# Altium schematic symbol library bhumishboard.SCHLIB: 123 symbols
Pins are listed as number, name and electrical type; pins without a type are passive.

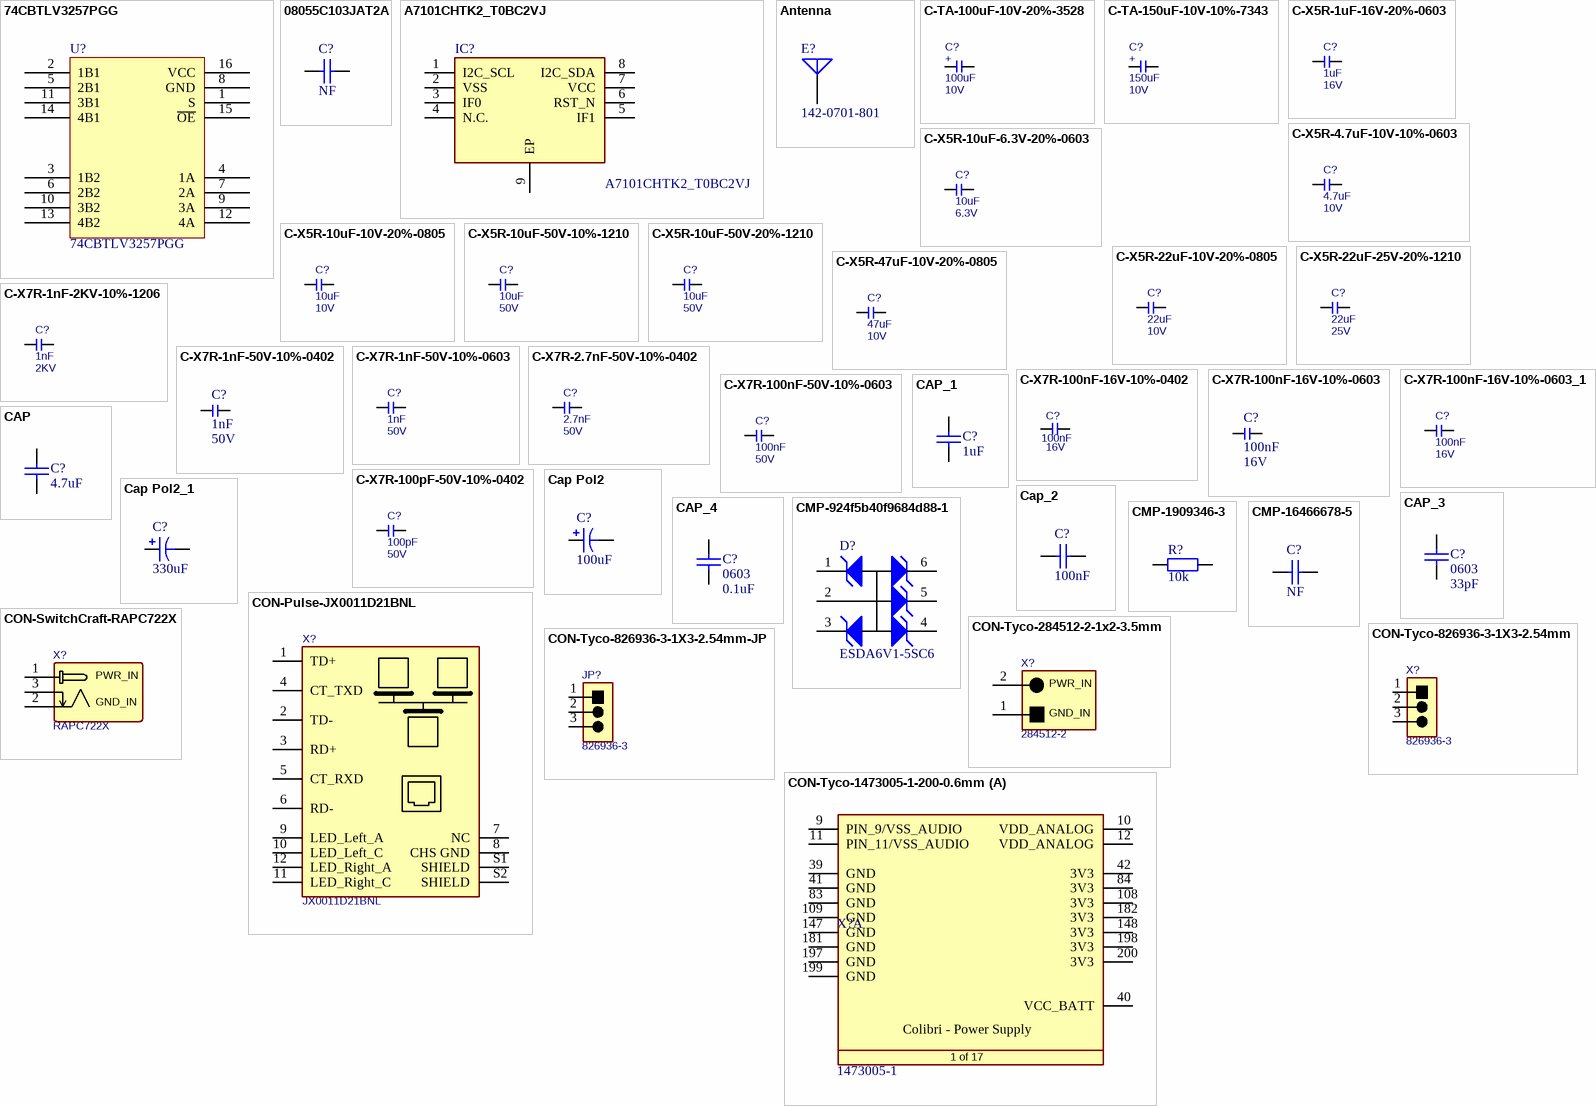
[diagram p0: symbols 74CBTLV3257PGG to CON-Tyco-1473005-1-200-0.6mm]

## 74CBTLV3257PGG
designator U?
footprint SOP65P640X120-16N
pins: 1 S, 2 1B1, 3 1B2, 4 1A, 5 2B1, 6 2B2, 7 2A, 8 GND, 9 3A, 10 3B2, 11 3B1, 12 4A, 13 4B2, 14 4B1, 15 ~{OE}, 16 VCC

## 08055C103JAT2A
designator C?, comment NF
CAP CER 10NF 50V 5% X7R 0805; Manufacturer Part Number: 08055C103JAT2A; Capacitance: 1e-08 F; Insulation Resistance: 1e+11 Ω; Voltage Rating (DC): 50.0 V; Dielectric Material: Ceramic Multilayer; Lead-Free Status: Lead Free; Case/Package (SI): 2012; Octopart Url: https://octopart.com/08055c103jat2a-avx+interconnect+%2F+elco-39513106; Capacitance Tolerance: ±5%; OctopartID: 02fac9aacb8edd3d; Number of Pins: 2; Size-Height: 0.00094 m; Size-Width: 0.0012446 m; RoHS: Compliant; REACH SVHC Compliance: No SVHC; Size-Length: 0.0020066 m; Size-Thickness: 0.0009398 m; Case/Package: 0805; Dielectric Characteristic: X7R; Mounting Style: Surface Mount
footprint CAPC2013X94X50ML20T25
footprint CAPC2013X94X50NL20T25
footprint CAPC1608X100N (Capacitor, non-Polarized, Chip; 1.60mm L X 0.80mm W X 1.00mm H, IPC Medium Density)
pins: 1, 2
1 alternate drawing of the same symbol

## A7101CHTK2_T0BC2VJ
designator IC?
Integrated Circuit; Manufacturer_Name: NXP; Manufacturer_Part_Number: A7101CHTK2/T0BC2VJ; Datasheet Link: https://componentsearchengine.com//A7101CHTK2_T0BC2VJ.pdf; Height: 1mm; Mouser2 Part Number: 771-A7101CHTKT0BC2VJ; Mouser2 Price/Stock: https://www.mouser.com/Search/Refine.aspx?Keyword=771-A7101CHTKT0BC2VJ
footprint SON80P400X400X100-9N-D
pins: 1 I2C_SCL, 2 VSS, 3 IF0, 4 N.C., 5 IF1, 6 RST_N, 7 VCC, 8 I2C_SDA, 9 EP

## Antenna
designator E?, comment 142-0701-801
Generic Antenna; Published: 24-Mar-1999; LatestRevisionDate: 17-Jul-2002; LatestRevisionNote: Re-released for DXP Platform.; PackageReference: PIN1; Publisher: Altium Limited
footprint PIN1 (Generic Antenna; 1 Lead)
pins: 1 A

## C-TA-100uF-10V-20%-3528
designator C?, comment Rating: 10V  (hidden comment: 100uF)
Capacitor TA 100uF 10V 20% 3528; Tolerance: 20%; Type: TA; Value: 100uF
footprint CAPMP3528X210N
pins: 1, 2
text: +

## C-TA-150uF-10V-10%-7343
designator C?, comment Rating: 10V  (hidden comment: 150uF)
Capacitor TA 150uF 10V 20% 7343; Tolerance: 10%; Type: TA; Value: 150uF
footprint CAPMP7343X310N
pins: 1, 2
text: +

## C-X5R-1uF-16V-20%-0603
designator C?, comment Rating: 16V  (hidden comment: 1uF)
Capacitor Ceramic X5R 1uF 16V 20% 0603; Tolerance: 20%; Type: X5R; Value: 1uF
footprint CAPC0603X33N
footprint T_CAPC0603X33N
pins: 1, 2

## C-X5R-4.7uF-10V-10%-0603
designator C?, comment Rating: 10V  (hidden comment: 4.7uF)
Capacitor Ceramic X5R 4.7uF 10V 10% 0603; Manufacturer Name: Generic; Tolerance: 10%; Type: X5R; Manufacturer Part No.: *; Value: 4.7uF
footprint T_CAPC0603X33N
pins: 1, 2

## C-X5R-10uF-6.3V-20%-0603
designator C?, comment Rating: 6.3V  (hidden comment: 10uF)
Capacitor Ceramic X5R 10uF 6.3V 20% 0603; Tolerance: 20%; Type: X5R; Value: 10uF
footprint CAPC0603X33N
footprint T_CAPC0603X33N
pins: 1, 2

## C-X5R-10uF-10V-20%-0805
designator C?, comment Rating: 10V  (hidden comment: 10uF)
Capacitor Ceramic X5R 10uF 10V 20% 0805; Tolerance: 20%; Type: X5R; Value: 10uF
footprint T_CAPC0805X125N
pins: 1, 2

## C-X5R-10uF-50V-10%-1210
designator C?, comment Rating: 50V  (hidden comment: 10uF)
Capacitor Ceramic X5R 10uF 50V 10% 1210; Tolerance: 10%; Type: X5R; Value: 10uF
footprint CAPC3225X160N
pins: 1, 2

## C-X5R-10uF-50V-20%-1210
designator C?, comment Rating: 50V  (hidden comment: 10uF)
Capacitor Ceramic X5R 10uF 50V 20% 1210; Tolerance: 20%; Type: X5R; Value: 10uF
footprint CAPC3225X160N
pins: 1, 2

## C-X5R-22uF-10V-20%-0805
designator C?, comment Rating: 10V  (hidden comment: 22uF)
Capacitor Ceramic X5R 22uF 10V 20% 0805; Tolerance: 20%; Type: X5R; Value: 22uF
footprint T_CAPC0805X125N
pins: 1, 2

## C-X5R-22uF-25V-20%-1210
designator C?, comment Rating: 25V  (hidden comment: 22uF)
Capacitor Ceramic X5R 22uF 25V 20% 1210; Tolerance: 20%; Type: X5R; Value: 22uF
footprint CAPC3225X160N
pins: 1, 2

## C-X5R-47uF-10V-20%-0805
designator C?, comment Rating: 10V  (hidden comment: 47uF)
Capacitor Ceramic X5R 47uF 10V 20% 0805; Tolerance: 20%; Type: X5R; Value: 47uF
footprint T_CAPC0805X125N
pins: 1, 2

## C-X7R-1nF-2KV-10%-1206
designator C?, comment Rating: 2KV  (hidden comment: 1nF)
Capacitor Ceramic X7R 1nF 2KV 10% 1206; Tolerance: 10%; Type: X7R; Value: 1nF
footprint T_CAPC1206X180N (Ceramic Capacitor 1206 (3216 metric), max height 1.8mm)
pins: 1, 2

## C-X7R-1nF-50V-10%-0402
designator C?, comment Rating: 50V  (hidden comment: 1nF)
Capacitor Ceramic X7R 1nF 50V 10% 0402; Tolerance: 10%; Type: X7R; Value: 1nF
footprint CAPC1005X60N
pins: 1, 2

## C-X7R-1nF-50V-10%-0603
designator C?, comment Rating: 50V  (hidden comment: 1nF)
Capacitor Ceramic X7R 1nF 50V 10% 0603; Tolerance: 10%; Type: X7R; Value: 1nF
footprint T_CAPC0603X33N
pins: 1, 2

## C-X7R-2.7nF-50V-10%-0402
designator C?, comment Rating: 50V  (hidden comment: 2.7nF)
Capacitor Ceramic X7R 2.7nF 50V 10% 0402; Tolerance: 10%; Type: X7R; Value: 2.7nF
footprint CAPC1005X60N
pins: 1, 2

## C-X7R-100nF-16V-10%-0402
designator C?, comment Rating: 16V  (hidden comment: 100nF)
Capacitor Ceramic X7R 100nF 16V 10% 0402; Tolerance: 10%; Type: X7R; Value: 100nF
footprint CAPC1005X60N
pins: 1, 2

## C-X7R-100nF-16V-10%-0603
designator C?, comment Rating: 16V  (hidden comment: 100nF)
Capacitor Ceramic X7R 100nF 16V 10% 0603; Tolerance: 10%; Type: X7R; Value: 100nF
footprint T_CAPC0603X33N
pins: 1, 2

## C-X7R-100nF-16V-10%-0603_1
designator C?, comment Rating: 16V  (hidden comment: 100nF)
Capacitor Ceramic X7R 100nF 16V 10% 0603; Tolerance: 10%; Type: X7R; Value: 100nF
footprint CAPC0603X33N
footprint T_CAPC0603X33N
pins: 1, 2

## C-X7R-100nF-50V-10%-0603
designator C?, comment Rating: 50V  (hidden comment: 100nF)
Capacitor Ceramic X7R 100nF 50V 10% 0603; Tolerance: 10%; Type: X7R; Value: 100nF
footprint T_CAPC0603X33N
pins: 1, 2

## C-X7R-100pF-50V-10%-0402
designator C?, comment Rating: 50V  (hidden comment: 100pF)
Capacitor Ceramic X7R 100pF 50V 10% 0402; Tolerance: 10%; Type: X7R; Value: 100pF
footprint CAPC1005X60N (Ceramic Capacitor 0402 (1005 metric), max height 0.5mm)
pins: 1, 2

## CAP
designator C?, comment 4.7uF
mpn: C0603C475K9PACTU; E14 pn: 9227784; Value: 4.7uF
footprint CAPC1608X100N (Capacitor, non-Polarized, Chip; 1.60mm L X 0.80mm W X 1.00mm H, IPC Medium Density)
pins: 1, 2

## Cap Pol2
designator C?, comment 100uF
Polarized Capacitor (Axial); Published: 8-Jun-2000; LatestRevisionDate: 17-Jul-2002; LatestRevisionNote: Re-released for DXP Platform.; PackageReference: POLAR0.8; Publisher: Altium Limited; PackageDescription: Polarized Capacitor; 2 Leads; Value: 100uF
footprint 2312 Tant
simulation model CAP (Capacitor)
signal-integrity model Cap Pol
pins: 1, 2
1 alternate drawing of the same symbol

## Cap Pol2_1
designator C?, comment 330uF
Polarized Capacitor (Axial); Published: 8-Jun-2000; LatestRevisionDate: 17-Jul-2002; LatestRevisionNote: Re-released for DXP Platform.; PackageReference: POLAR0.8; Publisher: Altium Limited; PackageDescription: Polarized Capacitor; 2 Leads; Value: 330uF
footprint 2312 Tant
simulation model CAP (Capacitor)
signal-integrity model Cap Pol
pins: 1, 2
1 alternate drawing of the same symbol

## CAP_1
designator C?, comment 1uF
mpn: C0603C105K8PACTU; E14 pn: 9227776; Value: 1uF
footprint CAPC1608X100N (Capacitor, non-Polarized, Chip; 1.60mm L X 0.80mm W X 1.00mm H, IPC Medium Density)
pins: 1, 2

## Cap_2
designator C?, comment 100nF
Capacitor; mpn: MC0603B104K250CT; E14 pn: 2310560; LatestRevisionNote: Re-released for DXP Platform.; PackageReference: RAD-0.3; Publisher: Altium Limited; PackageDescription: Radial Cap, Thru-Hole; 2 Leads; 0.3 in Pin Spacing; Value: 100nF
footprint CAPC1608X06L
simulation model CAP (Capacitor)
signal-integrity model Cap
pins: 1, 2

## CAP_3
designator C?, comment 0603  value 33pF
CAP CER 33PF 50V C0G/NP0 0603; Manufacturer PN: C0603C330J5GACTU; MANUFACTURER: Kemet
footprint CAPC1608X100N (Capacitor, non-Polarized, Chip; 1.60mm L X 0.80mm W X 1.00mm H, IPC Medium Density)
footprint CAPC1005X55N
pins: 1, 2

## CAP_4
designator C?, comment 0603  value 0.1uF
CAP CER 0.1UF 16V X7R 0603; Manufacturer PN: C0603C104M4RACTU; MANUFACTURER: Kemet
footprint CAPC1608X100N (Capacitor, non-Polarized, Chip; 1.60mm L X 0.80mm W X 1.00mm H, IPC Medium Density)
footprint CAPC1608X100N (Capacitor, non-Polarized, Chip; 1.60mm L X 0.80mm W X 1.00mm H, IPC Medium Density)
pins: 1, 2

## CMP-924f5b40f9684d88-1
designator D?, comment ESDA6V1-5SC6
ESDA Series 5 Channel 6.1 V 50 pF SMT Uni Directional Transil Array - SOT-23-6L; Operating Voltage: 6.10 V; Power Rating: 100 W; Breakdown Voltage: 7.20 V; Lead-Free Status: Lead Free; REACH SVHC Compliance: No SVHC; Number of Pins: 6; Case/Package: SOT-23; Size-Width: 1.75 mm; Mounting Style: Surface Mount; Manufacturer Part Number: ESDA6V1-5SC6; Size-Height: 1.45 mm; OctopartID: 924f5b40f9684d88; Size-Length: 3.05 mm; Packaging: Tape & Reel (TR), Cut Tape (CT); Octopart URL: http://octopart.com/esda6v1-5sc6-stmicroelectronics-347713; RoHS: Compliant; Voltage Rating (DC): 6.10 V; Lifecycle Status: Active
footprint SOT95P280X100-6N (SOT23, 0.95mm pitch; 6 pin, 1.625mm W X 2.90mm L X 1.00mm H body, IPC Medium Density)
pins: 1 K, 2 K, 3 K, 4 A, 5 A, 6 A

## CMP-1909346-3
designator R?, comment 10k
RES SMD 10K OHM 1% 1/8W 0805; Voltage Rating (DC): 150.0 V; Power Rating: 0.125 W; Lead-Free Status: Contains Lead; Resistance: 10000.0 ╬®; Resistance Tolerance: ┬▒1%; Temperature Coefficient: 100.0 ppm/┬░C; Case/Package (SI): 2012; RoHS: Non-Compliant; Case/Package: 0805; Size-Width: 0.00125 m; Power Dissipation: 0.125 W; REACH SVHC Compliance: No SVHC; Size-Length: 0.002 m; Size-Height: 0.00045 m; Mounting Style: Surface Mount; Number of Pins: 2; Octopart Url: http://octopart.com/crcw080510k0fkta-vishay-46587010; OctopartID: 1d05d6c9e4e1c2c2
footprint RESC1608X50N (Chip Resistor, EIA 0603, Metric 1608, Body 1.6x0.8mm, IPC Medium Density)
pins: 1, 2

## CMP-16466678-5
designator C?, comment NF
CAP CER 10NF 50V 5% X7R 0805; Manufacturer Part Number: 08055C103JAT2A; Capacitance: 1e-08 F; Insulation Resistance: 1e+11 Ω; Voltage Rating (DC): 50.0 V; Dielectric Material: Ceramic Multilayer; Lead-Free Status: Lead Free; Case/Package (SI): 2012; Octopart Url: https://octopart.com/08055c103jat2a-avx+interconnect+%2F+elco-39513106; Capacitance Tolerance: ±5%; OctopartID: 02fac9aacb8edd3d; Number of Pins: 2; Size-Height: 0.00094 m; Size-Width: 0.0012446 m; RoHS: Compliant; REACH SVHC Compliance: No SVHC; Size-Length: 0.0020066 m; Size-Thickness: 0.0009398 m; Case/Package: 0805; Dielectric Characteristic: X7R; Mounting Style: Surface Mount
footprint CAPC2013X94X50ML20T25
footprint CAPC2013X94X50NL20T25
footprint CAPC1608X100N (Capacitor, non-Polarized, Chip; 1.60mm L X 0.80mm W X 1.00mm H, IPC Medium Density)
pins: 1, 2
1 alternate drawing of the same symbol

## CON-Pulse-JX0011D21BNL
designator X?, comment JX0011D21BNL
RJ45 connector with magentics, 10/100 Base-TX, AutoMDIX, Through Hole; Manufacturer Name: Pulse; No. of ways: 12; Manufacturer Part No.: JX0011D21BNL
footprint T_Pulse_J00-0065NL (RJ45 Connector)
pins: 1 TD+, 2 TD-, 3 RD+, 4 CT_TXD, 5 CT_RXD, 6 RD-, 7 NC, 8 CHS GND, 9 LED_Left_A, 10 LED_Left_C, 11 LED_Right_C, 12 LED_Right_A, S1 SHIELD, S2 SHIELD

## CON-SwitchCraft-RAPC722X
designator X?, comment RAPC722X
Barrel Power Connector; Manufacturer Name: SwitchCraft; Manufacturer Part No.: RAPC722X
footprint CTBP9358/3 (Footprint not found)
pins: 1 GND_IN, 2 PWR_IN, 3 PWR_IN

## CON-Tyco-284512-2-1x2-3.5mm
designator X?, comment 284512-2
Terminal Block Power Connector; Manufacturer Name: Tyco; No. of ways: 1x2; Pitch: 3.5mm; Manufacturer Part No.: 284512-2
footprint T_TYCO_284512-2 (Power Connector 3.5mm)
pins: 1 GND_IN, 2 PWR_IN

## CON-Tyco-826936-3-1X3-2.54mm
designator X?, comment 826936-3
Header, 3-Pin; Manufacturer Name: Tyco; No. of ways: 1X3; Pitch: 2.54mm; Manufacturer Part No.: 826936-3
footprint T_TYCO_826936-3 (Connector; Header; 3 Position)
pins: 1, 2, 3

## CON-Tyco-826936-3-1X3-2.54mm-JP
designator JP?, comment 826936-3
Jumper, 3-Pin; Manufacturer Name: Tyco; No. of ways: 1X3; Pitch: 2.54mm; Manufacturer Part No.: 826936-3
footprint T_TYCO_826936-3 (Connector; Header; 3 Position)
pins: 1, 2, 3

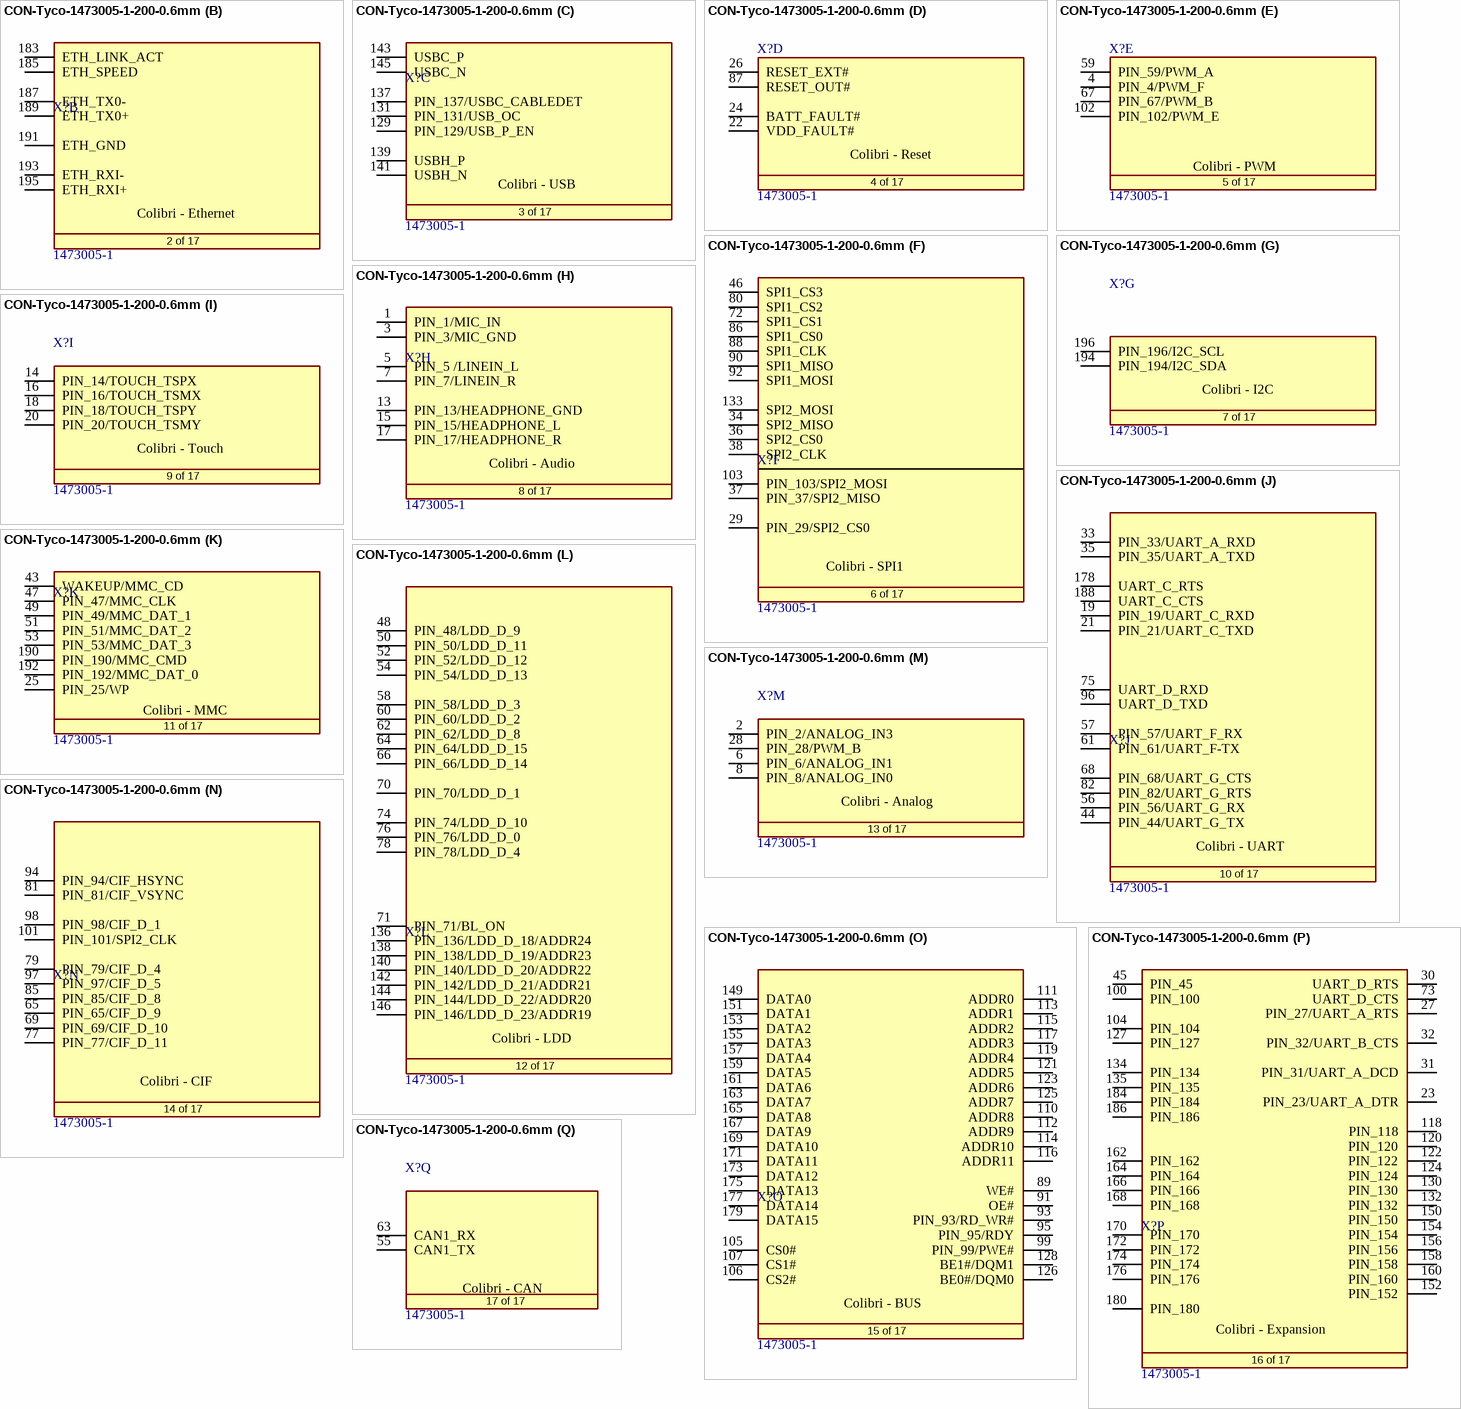
[diagram p1: symbol CON-Tyco-1473005-1-200-0.6mm]

## CON-Tyco-1473005-1-200-0.6mm
designator X?, comment 1473005-1
SODIMM Connector; Manufacturer Name: Tyco; No. of ways: 200; Manufacturer Part No.: 1473005-1
footprint T_Tyco_1473005-1 (SODIMM Connector)
part A pins: 9 PIN_9/VSS_AUDIO, 10 VDD_ANALOG, 11 PIN_11/VSS_AUDIO, 12 VDD_ANALOG, 39 GND (power), 40 VCC_BATT (power), 41 GND (power), 42 3V3 (power), 83 GND (power), 84 3V3 (power), 108 3V3, 109 GND (power), 147 GND (power), 148 3V3, 181 GND (power), 182 3V3 (power), 197 GND (power), 198 3V3 (power), 199 GND (power), 200 3V3 (power)
part B pins: 183 ETH_LINK_ACT, 185 ETH_SPEED, 187 ETH_TX0-, 189 ETH_TX0+, 191 ETH_GND, 193 ETH_RXI-, 195 ETH_RXI+
part C pins: 129 PIN_129/USB_P_EN, 131 PIN_131/USB_OC, 137 PIN_137/USBC_CABLEDET, 139 USBH_P, 141 USBH_N, 143 USBC_P, 145 USBC_N
part D pins: 22 VDD_FAULT#, 24 BATT_FAULT#, 26 RESET_EXT#, 87 RESET_OUT#
part E pins: 4 PIN_4/PWM_F, 59 PIN_59/PWM_A, 67 PIN_67/PWM_B, 102 PIN_102/PWM_E
part F pins: 29 PIN_29/SPI2_CS0, 34 SPI2_MISO, 36 SPI2_CS0, 37 PIN_37/SPI2_MISO, 38 SPI2_CLK, 46 SPI1_CS3, 72 SPI1_CS1, 80 SPI1_CS2, 86 SPI1_CS0, 88 SPI1_CLK, 90 SPI1_MISO, 92 SPI1_MOSI, 103 PIN_103/SPI2_MOSI, 133 SPI2_MOSI
part G pins: 194 PIN_194/I2C_SDA, 196 PIN_196/I2C_SCL
part H pins: 1 PIN_1/MIC_IN, 3 PIN_3/MIC_GND, 5 PIN_5 /LINEIN_L, 7 PIN_7/LINEIN_R, 13 PIN_13/HEADPHONE_GND, 15 PIN_15/HEADPHONE_L, 17 PIN_17/HEADPHONE_R
part I pins: 14 PIN_14/TOUCH_TSPX, 16 PIN_16/TOUCH_TSMX, 18 PIN_18/TOUCH_TSPY, 20 PIN_20/TOUCH_TSMY
part J pins: 19 PIN_19/UART_C_RXD, 21 PIN_21/UART_C_TXD, 33 PIN_33/UART_A_RXD, 35 PIN_35/UART_A_TXD, 44 PIN_44/UART_G_TX, 56 PIN_56/UART_G_RX, 57 PIN_57/UART_F_RX, 61 PIN_61/UART_F-TX, 68 PIN_68/UART_G_CTS, 75 UART_D_RXD, 82 PIN_82/UART_G_RTS, 96 UART_D_TXD, 178 UART_C_RTS, 188 UART_C_CTS
part K pins: 25 PIN_25/WP, 43 WAKEUP/MMC_CD, 47 PIN_47/MMC_CLK, 49 PIN_49/MMC_DAT_1, 51 PIN_51/MMC_DAT_2, 53 PIN_53/MMC_DAT_3, 190 PIN_190/MMC_CMD, 192 PIN_192/MMC_DAT_0
part L pins: 48 PIN_48/LDD_D_9, 50 PIN_50/LDD_D_11, 52 PIN_52/LDD_D_12, 54 PIN_54/LDD_D_13, 58 PIN_58/LDD_D_3, 60 PIN_60/LDD_D_2, 62 PIN_62/LDD_D_8, 64 PIN_64/LDD_D_15, 66 PIN_66/LDD_D_14, 70 PIN_70/LDD_D_1, 71 PIN_71/BL_ON, 74 PIN_74/LDD_D_10, 76 PIN_76/LDD_D_0, 78 PIN_78/LDD_D_4, 136 PIN_136/LDD_D_18/ADDR24, 138 PIN_138/LDD_D_19/ADDR23, 140 PIN_140/LDD_D_20/ADDR22, 142 PIN_142/LDD_D_21/ADDR21, 144 PIN_144/LDD_D_22/ADDR20, 146 PIN_146/LDD_D_23/ADDR19
part M pins: 2 PIN_2/ANALOG_IN3, 6 PIN_6/ANALOG_IN1, 8 PIN_8/ANALOG_IN0, 28 PIN_28/PWM_B
part N pins: 65 PIN_65/CIF_D_9, 69 PIN_69/CIF_D_10, 77 PIN_77/CIF_D_11, 79 PIN_79/CIF_D_4, 81 PIN_81/CIF_VSYNC, 85 PIN_85/CIF_D_8, 94 PIN_94/CIF_HSYNC, 97 PIN_97/CIF_D_5, 98 PIN_98/CIF_D_1, 101 PIN_101/SPI2_CLK
part O pins: 89 WE#, 91 OE#, 93 PIN_93/RD_WR#, 95 PIN_95/RDY, 99 PIN_99/PWE#, 105 CS0#, 106 CS2#, 107 CS1#, 110 ADDR8, 111 ADDR0, 112 ADDR9, 113 ADDR1, 114 ADDR10, 115 ADDR2, 116 ADDR11, 117 ADDR3, 119 ADDR4, 121 ADDR5, 123 ADDR6, 125 ADDR7, 126 BE0#/DQM0, 128 BE1#/DQM1, 149 DATA0, 151 DATA1, 153 DATA2, 155 DATA3, 157 DATA4, 159 DATA5, 161 DATA6, 163 DATA7, 165 DATA8, 167 DATA9, 169 DATA10, 171 DATA11, 173 DATA12, 175 DATA13, 177 DATA14, 179 DATA15
part P pins: 23 PIN_23/UART_A_DTR, 27 PIN_27/UART_A_RTS, 30 UART_D_RTS, 31 PIN_31/UART_A_DCD, 32 PIN_32/UART_B_CTS, 45 PIN_45, 73 UART_D_CTS, 100 PIN_100, 104 PIN_104, 118 PIN_118, 120 PIN_120, 122 PIN_122, 124 PIN_124, 127 PIN_127, 130 PIN_130, 132 PIN_132, 134 PIN_134, 135 PIN_135, 150 PIN_150, 152 PIN_152, 154 PIN_154, 156 PIN_156, 158 PIN_158, 160 PIN_160, 162 PIN_162, 164 PIN_164, 166 PIN_166, 168 PIN_168, 170 PIN_170, 172 PIN_172, 174 PIN_174, 176 PIN_176, 180 PIN_180, 184 PIN_184, 186 PIN_186
part Q pins: 55 CAN1_TX, 63 CAN1_RX
part A text: Colibri - Power Supply; 1 of 17
part B text: Colibri - Ethernet; 2 of 17
part C text: Colibri - USB; 3 of 17
part D text: Colibri - Reset; 4 of 17
part E text: Colibri - PWM; 5 of 17
part F text: Colibri - SPI1; 6 of 17
part G text: Colibri - I2C; 7 of 17
part H text: Colibri - Audio; 8 of 17
part I text: Colibri - Touch; 9 of 17
part J text: Colibri - UART; 10 of 17
part K text: Colibri - MMC; 11 of 17
part L text: Colibri - LDD; 12 of 17
part M text: Colibri - Analog; 13 of 17
part N text: Colibri - CIF; 14 of 17
part O text: Colibri - BUS; 15 of 17
part P text: Colibri - Expansion; 16 of 17
part Q text: Colibri - CAN; 17 of 17

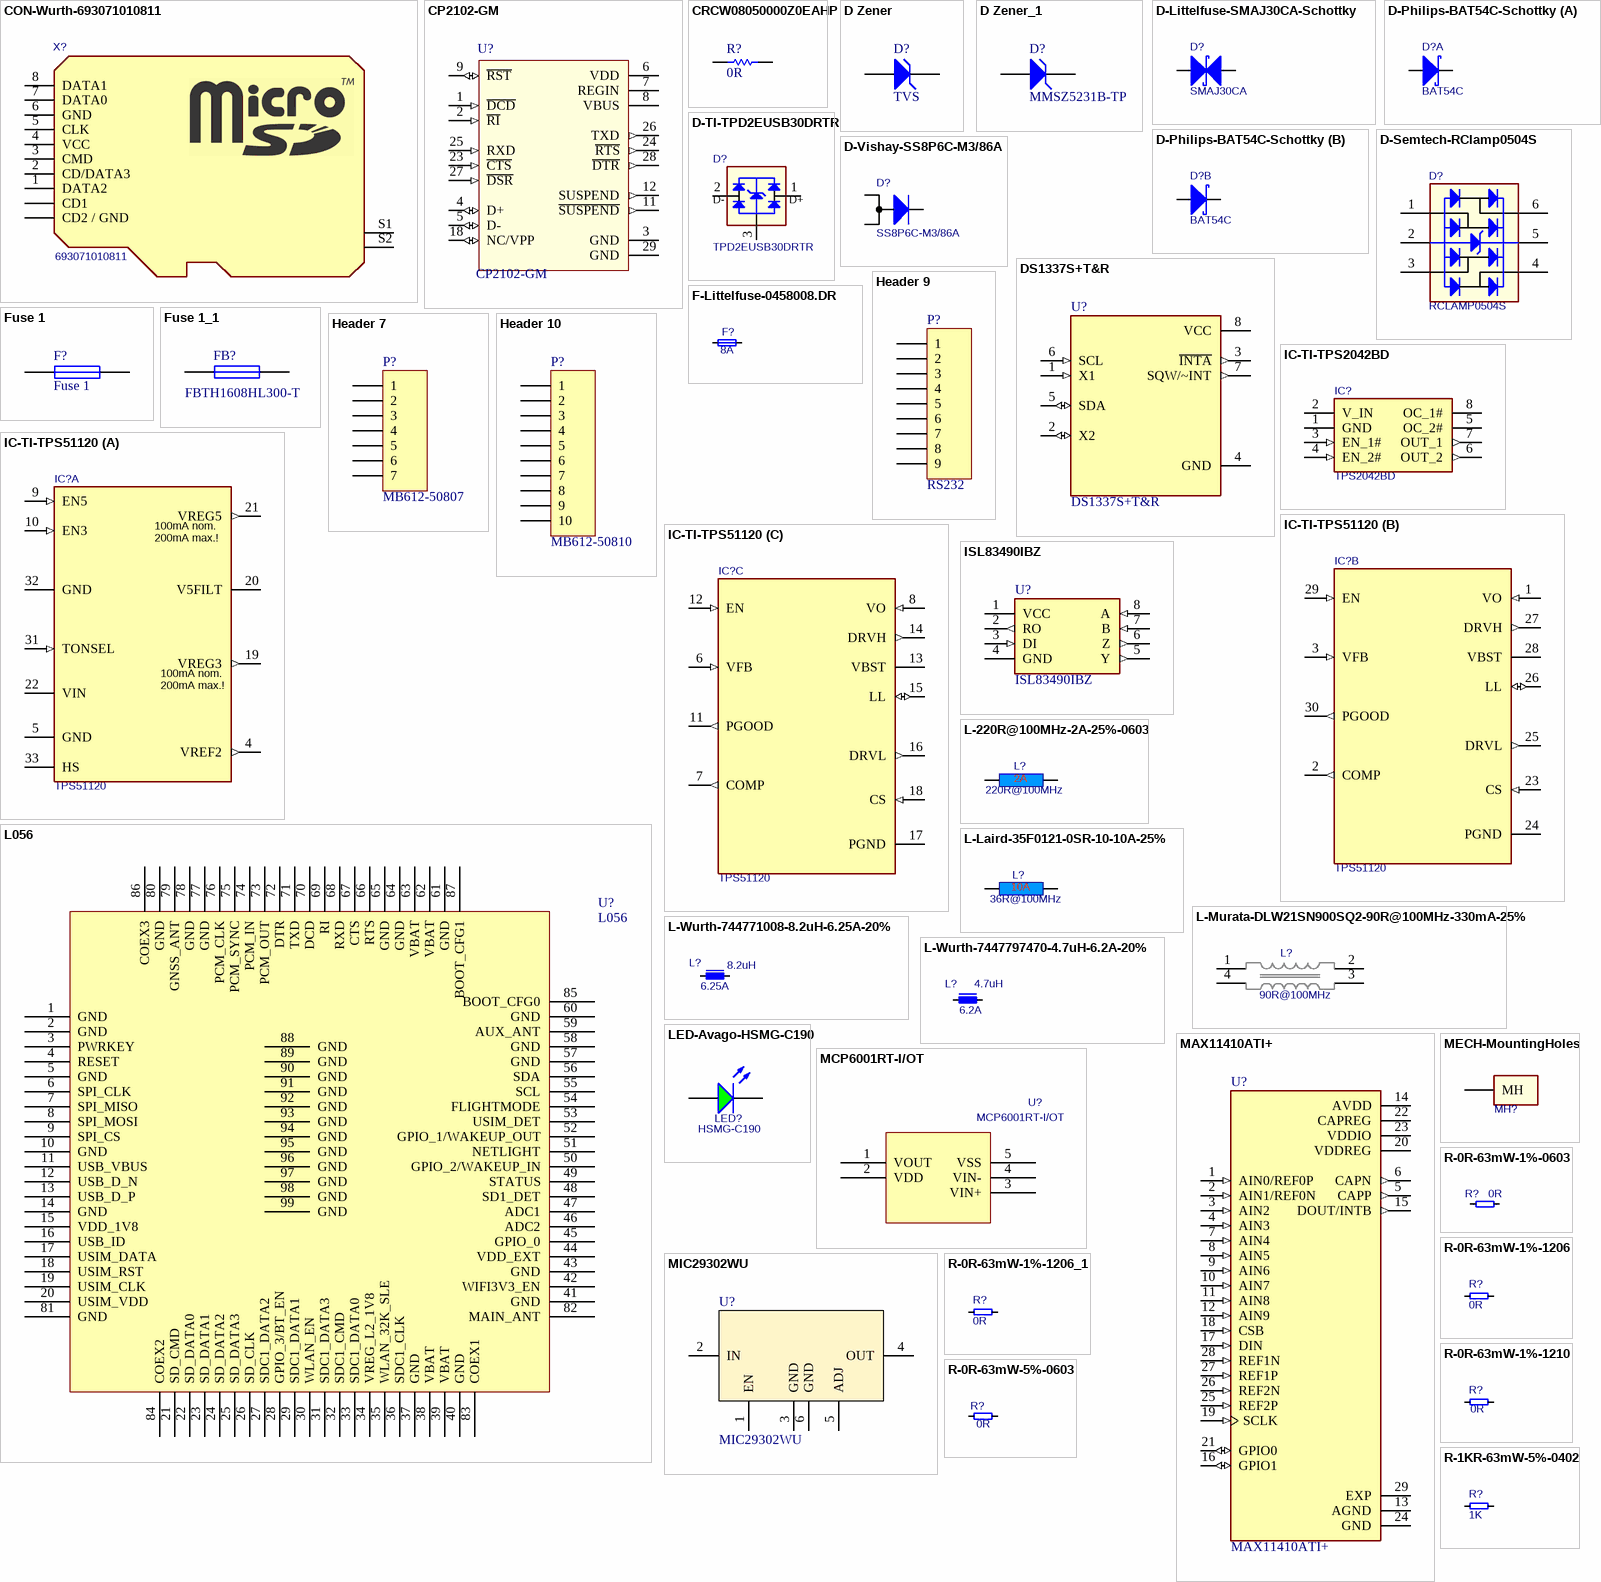
[diagram p2: symbols CON-Wurth-693071010811 to R-1KR-63mW-5%-0402]

## CON-Wurth-693071010811
designator X?, comment Manufacturer Part No.: 693071010811  (hidden comment: MicroSD Holder)
Micro SD Holder Push Push CD; Manufacturer Name: Wurth; No. of ways: 9
footprint T_Wurth_693071010811 (MicroSD Holder, Push-Pust Type,)
pins: 1 DATA2 (power), 2 CD/DATA3, 3 CMD, 4 VCC, 5 CLK (power), 6 GND (power), 7 DATA0 (power), 8 DATA1 (power), CD1 (power), CD2 CD2 / GND (power), S1 S, S2 S

## CP2102-GM
designator U?
USB Bridge, USB to UART USB 2.0 UART Interface 28-QFN (5x5); E14 pn: 9282130; MF: Silicon Labs; Package: QFN-28 Silicon Labs; mpn: CP2102-GM; SnapEDA_Link: https://www.snapeda.com/parts/CP2102-GM/Silicon%20Labs/view-part/135876/?ref=snap; Value: *
footprint QFN50P500X500X100-29N
pins: 1 ~{DCD} (in), 2 ~{RI} (in), 3 GND (power), 4 D+ (io), 5 D- (io), 6 VDD (power), 7 REGIN (power), 8 VBUS (power), 9 ~{RST} (io), 11 ~{SUSPEND} (out), 12 SUSPEND (out), 18 NC/VPP (io), 23 ~{CTS} (in), 24 ~{RTS} (out), 25 RXD (in), 26 TXD (out), 27 ~{DSR} (in), 28 ~{DTR} (out), 29 GND (power)

## CRCW08050000Z0EAHP
designator R?, comment 0R
RES SMD 0.0 OHM JUMPER 1/3W 0805; Lead-Free Status: Lead Free; Power Rating: 0.125 W; Resistance: 0.0 Ω; Voltage Rating (DC): 150.0 V; Case/Package: 0805; Number of Pins: 2; Octopart Url: https://octopart.com/crcw08050000z0eahp-vishay-44321084; OctopartID: d14c1ae2bd160e8b; RoHS: Compliant
footprint RESC2013X50X30ML20T20
footprint RESC2013X50X30NL20T20
footprint RESC1608X50N (Chip Resistor, EIA 0603, Metric 1608, Body 1.6x0.8mm, IPC Medium Density)
pins: 1, 2
1 alternate drawing of the same symbol

## D Zener
designator D?, comment TVS
Zener Diode; Manufacturer PN: MMSZ5231B-TP; MANUFACTURER: Micro Commercial Co; LatestRevisionDate: 17-Jul-2002; LatestRevisionNote: Re-released for DXP Platform.; Publisher: Altium Limited; PackageDescription: Diode, Thru-Hole; 2 Leads; 0.7 in Pin Spacing
footprint SOD3715X145N (SOD Diode (SOD-123); 2.70mm W X 1.55mm L X 1.45mm H body, IPC Medium Density)
simulation model ZENER (Diode)
signal-integrity model D Zener
pins: 1 A, 2 K

## D Zener_1
designator D?, comment MMSZ5231B-TP
Zener Diode; MANUFACTURER: Micro Commercial Co; Manufacturer PN: MMSZ5231B-TP; LatestRevisionDate: 17-Jul-2002; LatestRevisionNote: Re-released for DXP Platform.; Publisher: Altium Limited; PackageDescription: Diode, Thru-Hole; 2 Leads; 0.7 in Pin Spacing
footprint SOD3715X145N (SOD Diode (SOD-123); 2.70mm W X 1.55mm L X 1.45mm H body, IPC Medium Density)
simulation model ZENER (Diode)
signal-integrity model D Zener
pins: 1 A, 2 K

## D-Littelfuse-SMAJ30CA-Schottky
designator D?  Manufacturer Part No.: SMAJ30CA  (hidden comment: D-Littelfuse-SMAJ30CA-Schottky)
Bidirectional ESD protection; Manufacturer Name: Littelfuse
footprint T_LITTLEFUSE_SMAJ30CA (Bidirectional ESD protection)
pins: 1 Cathode, 2 Anode

## D-Philips-BAT54C-Schottky
designator D?, comment BAT54C
BAT54C Schottky Diode; Manufacturer Name: Philips; Manufacturer Part No.: BAT54C
footprint SOT95P230X110-3N
part A pins: 1, 3
part B pins: 2, 3

## D-Semtech-RClamp0504S
designator D?, comment RCLAMP0504S
TVS Array low cap; Manufacturer Name: Semtech; Manufacturer Part No.: RCLAMP0504S
footprint T_SOT95P285X90-6N (Footprint not found)
pins: 1 (power), 2 (power), 3, 4, 5 (power), 6 (power)

## D-TI-TPD2EUSB30DRTR
designator D?, comment TPD2EUSB30DRTR
2 Channel Protection for Super Speed USB3.0; Manufacturer Name: TI; Manufacturer Part No.: TPD2EUSB30DRTR
footprint T_TI_TPD2EUSB30DRTR (2 CHANNEL PROTECTION SOLUTION FOR SUPER-SPEED)
pins: 1 D+ (power), 2 D- (power), 3 (power)

## D-Vishay-SS8P6C-M3/86A
designator D?, comment SS8P6C-M3/86A
Diode Schottky, SS8P6C-M3/86A, 60V(Vrrm), 8A(If); Manufacturer: Vishay; Manufacturer Part Number: SS8P6C-M3/86A
footprint T_DIOM_TO277A (Molded Diode, 3-Leads, Body 4.75x6.65mm, IPC Medium Density)
pins: A1, A2, K

## DS1337S+T&R
designator U?
Real Time Clock (RTC) IC Clock/Calendar IÂ²C, 2-Wire Serial 8-SOIC (0.154, 3.90mm Width); MP: DS1337S+T&amp;R; MF: Maxim Integrated; Value: *; Package: SOIC-8 Maxim; Purchase-URL: https://pricing.snapeda.com/search/part/DS1337S+T&amp;R/?ref=eda; SnapEDA_Link: https://www.snapeda.com/parts/DS1337S+T&R/Maxim%20Integrated/view-part/386900/?ref=snap; Digi-Key_Part_Number: DS1337S+T&RCT-ND; Check_prices: https://www.snapeda.com/parts/DS1337S+T&R/Maxim%20Integrated/view-part/386900/?ref=eda
footprint SOIC127P600X175-8N
pins: 1 X1 (in), 2 X2 (io), 3 ~{INTA} (out), 4 GND (power), 5 SDA (io), 6 SCL (in), 7 SQW/~INT (out), 8 VCC (power)

## F-Littelfuse-0458008.DR
designator F?, comment 8A
Fast Fuse, Rated 8A, 63V(DC), 1206 (3216 Metric); Manufacturer Part No.: 0458008.DR; Manufacturer Name: Littelfuse; Value: 8A
footprint T_Littelfuse_0458 (Fast Fuse)
pins: 1, 2

## Fuse 1
designator F?
Fuse; mpn: SSQC 3; Published: 8-Jun-2000; LatestRevisionDate: 17-Jul-2002; LatestRevisionNote: Re-released for DXP Platform.; PackageReference: PIN-W2/E2.8; PackageDescription: Thru-Hole; 2 Leads
footprint SSQC_BEL
simulation model FUSE (Spice Subcircuit)
pins: 1, 2

## Fuse 1_1
designator FB?, comment FBTH1608HL300-T
Fuse; Manufacturer Part Number: 0ZRM0050FF1E
footprint IND-0603
simulation model FUSE (Spice Subcircuit)
pins: 1, 2

## Header 7
designator P?, comment MB612-50807
Header, 7-Pin; LatestRevisionDate: 17-Jul-2002; LatestRevisionNote: Re-released for DXP Platform.; Publisher: Altium Limited
footprint MB612-50807 (2 Position Wire to Board Terminal Block Horizontal with Board 0.197" (5.00mm) Through Hole)
signal-integrity model Connector
pins: 1, 2, 3, 4, 5, 6, 7

## Header 9
designator P?, comment RS232
2301843-1; LatestRevisionDate: 17-Jul-2002; LatestRevisionNote: Re-released for DXP Platform.; Publisher: Altium Limited
footprint 2301843-1
signal-integrity model Connector
pins: 1, 2, 3, 4, 5, 6, 7, 8, 9

## Header 10
designator P?, comment MB612-50810
Header, 10-Pin; LatestRevisionDate: 17-Jul-2002; LatestRevisionNote: Re-released for DXP Platform.; Publisher: Altium Limited
footprint 1729186 5.08 - 10pos
signal-integrity model Connector
pins: 1, 2, 3, 4, 5, 6, 7, 8, 9, 10

## IC-TI-TPS2042BD
designator IC?, comment TPS2042BD
Dual High Side Switch With OC_DET 500mA/CH; Manufacturer Name: Texas Instruments; Manufacturer Part No.: TPS2042BD
footprint SOIC127P600X173-8N
pins: 1 GND (power), 2 V_IN (power), 3 EN_1# (in), 4 EN_2# (in), 5 OC_2#, 6 OUT_2 (out), 7 OUT_1 (out), 8 OC_1#

## IC-TI-TPS51120
designator IC?, comment TPS51120
Power Supply Controller; Manufacturer Name: Texas Instruments; Manufacturer Part No.: TPS51120
footprint QFN50P500X500X100-33N
part A pins: 4 VREF2 (out), 5 GND (power), 9 EN5 (in), 10 EN3 (in), 19 VREG3 (out), 20 V5FILT (power), 21 VREG5 (out), 22 VIN (power), 31 TONSEL (in), 32 GND (power), 33 HS
part B pins: 1 VO (in), 2 COMP (out), 3 VFB (in), 23 CS (in), 24 PGND (power), 25 DRVL (out), 26 LL (io), 27 DRVH (out), 28 VBST (power), 29 EN (in), 30 PGOOD (out)
part C pins: 6 VFB (in), 7 COMP (out), 8 VO (in), 11 PGOOD (out), 12 EN (in), 13 VBST, 14 DRVH (out), 15 LL (io), 16 DRVL (out), 17 PGND (power), 18 CS (in)
part A text: 100mA nom.; 200mA max.!

## ISL83490IBZ
designator U?
1/1 Transceiver Full RS422, RS485 8-SOIC; MF: Renesas / Intersil; Value: *; Digi-Key_Part_Number: ISL83490IBZ-TTR-ND; Package: SOIC-8 Renesas / Intersil; SnapEDA_Link: https://www.snapeda.com/parts/ISL83490IBZ/Intersil/view-part/4709839/?ref=snap; Digi-Key_Purchase_URL: https://www.digikey.com/product-detail/en/renesas-electronics-america-inc/ISL83490IBZ-T/ISL83490IBZ-TTR-ND/1065061?utm_source=snapeda&utm_medium=aggregator&utm_campaign=symbol; MP: ISL83490IBZ
footprint SOIC127P600X175-8N
pins: 1 VCC (power), 2 RO (out), 3 DI (in), 4 GND (power), 5 Y (out), 6 Z (out), 7 B (in), 8 A (in)

## L056
designator U?
footprint L506
pins: 1 GND, 2 GND, 3 PWRKEY, 4 RESET, 5 GND, 6 SPI_CLK, 7 SPI_MISO, 8 SPI_MOSI, 9 SPI_CS, 10 GND, 11 USB_VBUS, 12 USB_D_N, 13 USB_D_P, 14 GND, 15 VDD_1V8, 16 USB_ID, 17 USIM_DATA, 18 USIM_RST, 19 USIM_CLK, 20 USIM_VDD, 21 SD_CMD, 22 SD_DATA0, 23 SD_DATA1, 24 SD_DATA2, 25 SD_DATA3, 26 SD_CLK, 27 SDC1_DATA2, 28 GPIO_3/BT_EN, 29 SDC1_DATA1, 30 WLAN_EN, 31 SDC1_DATA3, 32 SDC1_CMD, 33 SDC1_DATA0, 34 VREG_L2_1V8, 35 WLAN_32K_SLE, 36 SDC1_CLK, 37 GND, 38 VBAT, 39 VBAT, 40 GND, 41 GND, 42 WIFI3V3_EN, 43 GND, 44 VDD_EXT, 45 GPIO_0, 46 ADC2, 47 ADC1, 48 SD1_DET, 49 STATUS, 50 GPIO_2/WAKEUP_IN, 51 NETLIGHT, 52 GPIO_1/WAKEUP_OUT, 53 USIM_DET, 54 FLIGHTMODE, 55 SCL, 56 SDA, 57 GND, 58 GND, 59 AUX_ANT, 60 GND, 61 GND, 62 VBAT, 63 VBAT, 64 GND, 65 GND, 66 RTS, 67 CTS, 68 RXD, 69 RI, 70 DCD, 71 TXD, 72 DTR, 73 PCM_OUT, 74 PCM_IN, 75 PCM_SYNC, 76 PCM_CLK, 77 GND, 78 GND, 79 GNSS_ANT, 80 GND, 81 GND, 82 MAIN_ANT, 83 COEX1, 84 COEX2, 85 BOOT_CFG0, 86 COEX3, 87 BOOT_CFG1, 88 GND, 89 GND, 90 GND, 91 GND, 92 GND, 93 GND, 94 GND, 95 GND, 96 GND, 97 GND, 98 GND, 99 GND

## L-220R@100MHz-2A-25%-0603
designator L?, comment 220R@100MHz
220R@100MHz 2A EMI FILTER; Tolerance: 25%; Rating: 2A; Value: 220R@100MHz
footprint INDC1608X95N
pins: 1, 2

## L-Laird-35F0121-0SR-10-10A-25%
designator L?, comment 36R@100MHz
Power Supply FB 10A; Tolerance: 25%; Rating: 10A; Value: 36R@100MHz
footprint T_Laird_35F0121-0SR-10 (Power supply FB 10A)
pins: 1, 2

## L-Murata-DLW21SN900SQ2-90R@100MHz-330mA-25%
designator L?, comment 90R@100MHz
Common Mode Choke High Speed 90R 330mA; Manufacturer Name: Murata; Manufacturer Part No.: DLW21SN900SQ2; Tolerance: 25%; Rating: 330mA; Value: 90R@100MHz
footprint T_Murata_DLW21SN900SQ2 (Common Mode Choke)
pins: 1, 2, 3, 4

## L-Wurth-744771008-8.2uH-6.25A-20%
designator L?, comment Rating: 6.25A  (hidden comment: 8.2uH)
Inductance 8.2uH 6.25A 20%; Manufacturer Name: Wurth; Manufacturer Part No.: 744771008; Tolerance: 20%; Value: 8.2uH
footprint T_INDM120120X80N
pins: 1, 2

## L-Wurth-7447797470-4.7uH-6.2A-20%
designator L?, comment Rating: 6.2A  (hidden comment: 4.7uH)
Inductance 4.7uH 6.2A 20%; Manufacturer Name: Wurth; Manufacturer Part No.: 7447797470; Tolerance: 20%; Value: 4.7uH
footprint T_INDM102102X45N
pins: 1, 2

## LED-Avago-HSMG-C190
designator LED?, comment Manufacturer Part No.: HSMG-C190  (hidden comment: LED)
Surface mount LED green 20mA; Manufacturer Name: Avago
footprint LEDC1608X80N
pins: 1 K, 2 A

## MAX11410ATI+
designator U?
24 Bit Analog to Digital Converter 5, 10 Input 1 Sigma-Delta 28-TQFN _4x4_; MF: Maxim Integrated; Package: TQFN-28 Maxim; MP: MAX11410ATI+; Price: None; Availability: Unavailable; Value: *; SnapEDA_Link: https://www.snapeda.com/parts/MAX11410ATI+/Maxim%20Integrated/view-part/1232119/?ref=snap
footprint QFN40P400X400X80-29N
pins: 1 AIN0/REF0P (in), 2 AIN1/REF0N (in), 3 AIN2 (in), 4 AIN3 (in), 5 CAPP (out), 6 CAPN (out), 7 AIN4 (in), 8 AIN5 (in), 9 AIN6 (in), 10 AIN7 (in), 11 AIN8 (in), 12 AIN9 (in), 13 AGND (power), 14 AVDD (power), 15 DOUT/INTB (out), 16 GPIO1 (io), 17 DIN (in), 18 CSB (in), 19 SCLK (in), 20 VDDREG (power), 21 GPIO0 (io), 22 CAPREG (power), 23 VDDIO (power), 24 GND (power), 25 REF2P (in), 26 REF2N (in), 27 REF1P (in), 28 REF1N (in), 29 EXP (power)

## MCP6001RT-I/OT
designator U?
C: Copyright (C) 2015 Accelerated Designs. All rights reserved; Vendor: Microchip; Built_By: EMA_UL_Team; SourceLibrary: Microchip_2011-05-13; Value: mcp6001rt-i/ot; Manufacturer_Part_Number: mcp6001rt-i/ot
footprint SOT-23-5
pins: 1 VOUT, 2 VDD, 3 VIN+, 4 VIN-, 5 VSS

## MECH-MountingHoles
designator MH?  (value not drawn)  (no BOM)
PCB Mounting Holes, hole diemeter = 3.2mm, pad diameter = 6.2mm
footprint T_MountingHoles (PCB Mounting Holes)
pins: 1 MH

## MIC29302WU
designator U?
footprint TO-263
footprint MIC29302WU
pins: 1 EN, 2 IN, 3 GND, 4 OUT, 5 ADJ, 6 GND

## R-0R-63mW-1%-0603
designator R?, comment 0R
Resistor 0 ohm 63mW 1% 0603; Rating: 63mW; Tolerance: 1%; Value: 0R
footprint RESC0603X30N
footprint T_RESC0603X30N
pins: 1, 2

## R-0R-63mW-1%-1206
designator R?, comment 0R
Resistor 0 ohm 63mW 1% 1206; Rating: 63mW; Tolerance: 1%; Value: 0R
footprint T_RESC3216X760N
pins: 1, 2

## R-0R-63mW-1%-1206_1
designator R?, comment 0R
Resistor 0 ohm 63mW 1% 1206; Rating: 63mW; Tolerance: 1%; Value: 0R
footprint T_RESC3216X760N
pins: 1, 2

## R-0R-63mW-1%-1210
designator R?, comment 0R
Resistor 0 ohm 63mW 1%; Rating: 63mW; Tolerance: 1%; Value: 0R
footprint CAPC1608X100N (Capacitor, non-Polarized, Chip; 1.60mm L X 0.80mm W X 1.00mm H, IPC Medium Density)
pins: 1, 2

## R-0R-63mW-5%-0603
designator R?, comment 0R
Resistor 0 ohm 63mW 5% 0603; Rating: 63mW; Tolerance: 5%; Value: 0R; Size: 0603 (In)
footprint T_RESC0603X30N
pins: 1, 2

## R-1KR-63mW-5%-0402
designator R?, comment 1K
Resistor 1 Kohm 63mW 5% 0402; Rating: 63mW; Tolerance: 5%; Value: 1K
footprint RESC1005X40N
pins: 1, 2

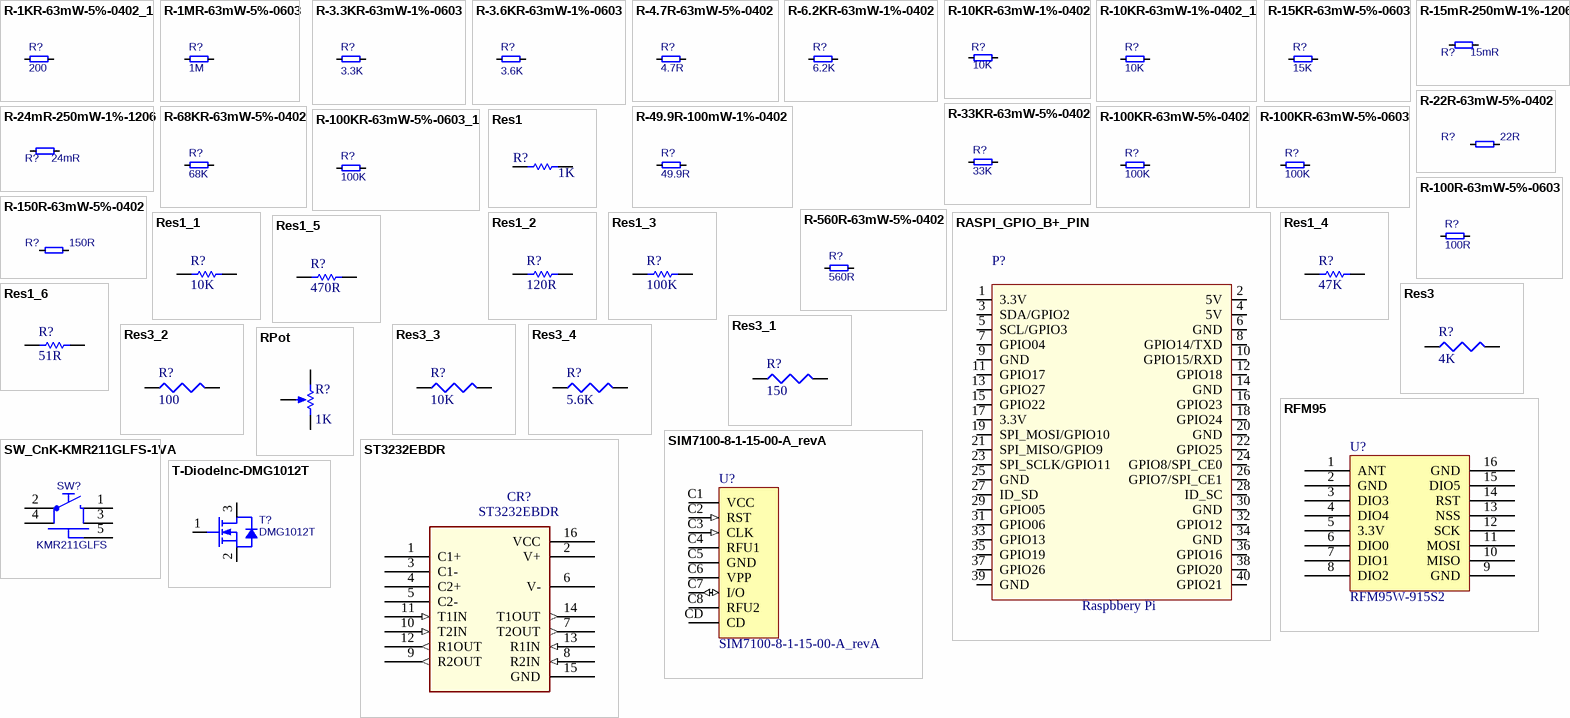
[diagram p3: symbols R-1KR-63mW-5%-0402_1 to T-DiodeInc-DMG1012T]

## R-1KR-63mW-5%-0402_1
designator R?, comment 200
Resistor 1 Kohm 63mW 5% 0402; Value: 1K; Rating: 63mW; Tolerance: 5%
footprint RESC1005X40N
pins: 1, 2

## R-1MR-63mW-5%-0603
designator R?, comment 1M
Resistor 1 Mohm 63mW 5% 0603; Value: 1MR; Rating: 63mW; Tolerance: 5%
footprint T_RESC0603X30N
pins: 1, 2

## R-3.3KR-63mW-1%-0603
designator R?, comment 3.3K
Resistor 3.3 Kohm 63mW 1% 0603; Value: 3.3KR; Rating: 63mW; Tolerance: 1%
footprint T_RESC0603X30N
pins: 1, 2

## R-3.6KR-63mW-1%-0603
designator R?, comment 3.6K
Resistor 3.6 Kohm 63mW 1% 0603; Value: 3.6KR; Rating: 63mW; Tolerance: 1%
footprint T_RESC0603X30N
pins: 1, 2

## R-4.7R-63mW-5%-0402
designator R?, comment 4.7R
Resistor 4.7 ohm 63mW 5% 0402; Rating: 63mW; Tolerance: 5%; Value: 4.7R
footprint RESC1005X40N
pins: 1, 2

## R-6.2KR-63mW-1%-0402
designator R?, comment 6.2K
Resistor 6.2 Kohm 63mW 1% 0402; Value: 6.2KR; Rating: 63mW; Tolerance: 1%
footprint RESC1005X40N
pins: 1, 2

## R-10KR-63mW-1%-0402
designator R?, comment 10K
Resistor 10 Kohm 63mW 1% 0402; Value: 10KR; Rating: 63mW; Tolerance: 1%
footprint RESC1005X40N
pins: 1, 2

## R-10KR-63mW-1%-0402_1
designator R?, comment 10K
Resistor 10 Kohm 63mW 1% 0402; Value: 10KR; Rating: 63mW; Tolerance: 1%
footprint RESC1005X40N
pins: 1, 2

## R-15KR-63mW-5%-0603
designator R?, comment 15K
Resistor 15 Kohm 63mW 5% 0603; Value: 15KR; Rating: 63mW; Tolerance: 5%
footprint T_RESC0603X30N
pins: 1, 2

## R-15mR-250mW-1%-1206
designator R?, comment 15mR
Resistor 15 mohm 250mW 1% 1206; Rating: 250mW; Tolerance: 1%; Value: 15mR
footprint RESC3316X76N
pins: 1, 2

## R-22R-63mW-5%-0402
designator R?, comment 22R
Resistor 22 ohm 63mW 5% 0402; Rating: 63mW; Tolerance: 5%; Value: 22R
footprint RESC1005X40N
pins: 1, 2

## R-24mR-250mW-1%-1206
designator R?, comment 24mR
Resistor 24 mohm 250mW 1% 1206; Rating: 250mW; Tolerance: 1%; Value: 24mR
footprint RESC3316X76N
pins: 1, 2

## R-33KR-63mW-5%-0402
designator R?, comment 33K
Resistor 33 Kohm 63mW 5% 0402; Value: 33KR; Rating: 63mW; Tolerance: 5%
footprint RESC1005X40N
pins: 1, 2

## R-49.9R-100mW-1%-0402
designator R?, comment 49.9R
Resistor 49.9 ohm 100mW 1% 0402; Rating: 100mW; Tolerance: 1%; Value: 49.9R; Size: 0402
footprint RESC1005X40N
pins: 1, 2

## R-68KR-63mW-5%-0402
designator R?, comment 68K
Resistor 68 Kohm 63mW 5% 0402; Value: 68KR; Rating: 63mW; Tolerance: 5%
footprint RESC1005X40N
pins: 1, 2

## R-100KR-63mW-5%-0402
designator R?, comment 100K
Resistor 100 Kohm 63mW 5% 0402; Value: 100KR; Rating: 63mW; Tolerance: 5%
footprint RESC1005X40N
pins: 1, 2

## R-100KR-63mW-5%-0603
designator R?, comment 100K
Resistor 100 Kohm 63mW 5% 0603; Value: 100KR; Rating: 63mW; Tolerance: 5%
footprint T_RESC0603X30N
pins: 1, 2

## R-100KR-63mW-5%-0603_1
designator R?, comment 100K
Resistor 100 Kohm 63mW 5% 0603; Value: 100KR; Rating: 63mW; Tolerance: 5%
footprint RESC0603X30N
footprint T_RESC0603X30N
pins: 1, 2

## R-100R-63mW-5%-0603
designator R?, comment 100R
Resistor 100 ohm 63mW 5% 0603; Rating: 63mW; Tolerance: 5%; Value: 100R
footprint T_RESC0603X30N
pins: 1, 2

## R-150R-63mW-5%-0402
designator R?, comment 150R
Resistor 150 ohm 63mW 5% 0402; Tolerance: 5%; Value: 150R; Rating: 63mW
footprint RESC1005X40N
pins: 1, 2

## R-560R-63mW-5%-0402
designator R?, comment 560R
Resistor 560 ohm 63mW 5% 0402; Rating: 63mW; Tolerance: 5%; Value: 560R
footprint RESC1005X40N
pins: 1, 2

## RASPI_GPIO_B+_PIN
designator P?, comment Raspbbery Pi
footprint RASPI_GPIO_B+
pins: 1 3.3V (power), 2 5V (power), 3 SDA/GPIO2, 4 5V (power), 5 SCL/GPIO3, 6 GND (power), 7 GPIO04, 8 GPIO14/TXD, 9 GND (power), 10 GPIO15/RXD, 11 GPIO17, 12 GPIO18, 13 GPIO27, 14 GND (power), 15 GPIO22, 16 GPIO23, 17 3.3V (power), 18 GPIO24, 19 SPI_MOSI/GPIO10, 20 GND (power), 21 SPI_MISO/GPIO9, 22 GPIO25, 23 SPI_SCLK/GPIO11, 24 GPIO8/SPI_CE0, 25 GND (power), 26 GPIO7/SPI_CE1, 27 ID_SD, 28 ID_SC, 29 GPIO05, 30 GND (power), 31 GPIO06, 32 GPIO12, 33 GPIO13, 34 GND (power), 35 GPIO19, 36 GPIO16, 37 GPIO26, 38 GPIO20, 39 GND (power), 40 GPIO21

## Res1
designator R?, comment 1K
Resistor; mpn: CRCW060310K0FKEAHP; E14: 1738918; LatestRevisionDate: 17-Jul-2002; LatestRevisionNote: Re-released for DXP Platform.; PackageReference: AXIAL-0.3; PackageDescription: Axial Device, Thru-Hole; 2 Leads; 0.3 in Pin Spacing; Value: 1K
footprint RESC1608X50N (Chip Resistor, EIA 0603, Metric 1608, Body 1.6x0.8mm, IPC Medium Density)
simulation model RESISTOR (Resistor)
signal-integrity model Res
pins: 1, 2

## Res1_1
designator R?, comment 10K
Resistor; mpn: CRCW060310K0FKEAHP; E14: 1738918; LatestRevisionDate: 17-Jul-2002; LatestRevisionNote: Re-released for DXP Platform.; PackageReference: AXIAL-0.3; PackageDescription: Axial Device, Thru-Hole; 2 Leads; 0.3 in Pin Spacing; Value: 10K
footprint RESC1608X50N (Chip Resistor, EIA 0603, Metric 1608, Body 1.6x0.8mm, IPC Medium Density)
simulation model RESISTOR (Resistor)
signal-integrity model Res
pins: 1, 2

## Res1_2
designator R?, comment 120R
Resistor; Published: 8-Jun-2000; LatestRevisionDate: 17-Jul-2002; LatestRevisionNote: Re-released for DXP Platform.; PackageReference: AXIAL-0.3; Publisher: Altium Limited; PackageDescription: Axial Device, Thru-Hole; 2 Leads; 0.3 in Pin Spacing; Value: 120R
footprint T_RESC0603X30N (Film Resistor 0603 (1608 metric), max height 0.45mm)
simulation model RESISTOR (Resistor)
signal-integrity model Res
pins: 1, 2

## Res1_3
designator R?, comment 100K
Resistor; Published: 8-Jun-2000; LatestRevisionDate: 17-Jul-2002; LatestRevisionNote: Re-released for DXP Platform.; PackageReference: AXIAL-0.3; Publisher: Altium Limited; PackageDescription: Axial Device, Thru-Hole; 2 Leads; 0.3 in Pin Spacing; Value: 100K
footprint RESC1608X50N (Chip Resistor, EIA 0603, Metric 1608, Body 1.6x0.8mm, IPC Medium Density)
simulation model RESISTOR (Resistor)
signal-integrity model Res
pins: 1, 2

## Res1_4
designator R?, comment 47K
Resistor; Published: 8-Jun-2000; LatestRevisionDate: 17-Jul-2002; LatestRevisionNote: Re-released for DXP Platform.; PackageReference: AXIAL-0.3; Publisher: Altium Limited; PackageDescription: Axial Device, Thru-Hole; 2 Leads; 0.3 in Pin Spacing; Value: 47K
footprint RESC1608X50N (Chip Resistor, EIA 0603, Metric 1608, Body 1.6x0.8mm, IPC Medium Density)
simulation model RESISTOR (Resistor)
signal-integrity model Res
pins: 1, 2

## Res1_5
designator R?, comment 470R
Resistor; Published: 8-Jun-2000; LatestRevisionDate: 17-Jul-2002; LatestRevisionNote: Re-released for DXP Platform.; PackageReference: AXIAL-0.3; Publisher: Altium Limited; PackageDescription: Axial Device, Thru-Hole; 2 Leads; 0.3 in Pin Spacing; Value: 470R
footprint RESC1608X50N (Chip Resistor, EIA 0603, Metric 1608, Body 1.6x0.8mm, IPC Medium Density)
simulation model RESISTOR (Resistor)
signal-integrity model Res
pins: 1, 2

## Res1_6
designator R?, comment 51R
RES SMD 1K OHM 1% 1/10W 0603; Manufacturer: Yageo; Manufacturer PN: RC0603FR-0751RL; Value: 51R; Supplier 1: Digikey
footprint RESC1608X50N (Chip Resistor, EIA 0603, Metric 1608, Body 1.6x0.8mm, IPC Medium Density)
pins: 1, 2

## Res3
designator R?  value 4K  (hidden comment: Res3)
Resistor; Published: 8-Jun-2000; LatestRevisionDate: 29-May-2009; LatestRevisionNote: IPC-7351 Footprint Added.; PackageReference: J1-0603; Publisher: Altium Limited; PackageDescription: Chip Resistor
footprint J1-0603 (Chip Resistor, Body 1.6x0.8mm, IPC High Density)
footprint 14-1210 (Chip Resistor, Body 3.2x2.5mm, IPC High Density)
footprint 12Z-2010 (Chip Resistor, Body 5.0x2.5mm, IPC High Density)
footprint RESC6332 (Chip Resistor, Body 6.3x3.2mm, IPC High Density)
simulation model RESISTOR (Resistor)
signal-integrity model Res
pins: 1, 2

## Res3_1
designator R?, comment value 150  (hidden comment: Res3)
Resistor; Published: 8-Jun-2000; LatestRevisionDate: 29-May-2009; LatestRevisionNote: IPC-7351 Footprint Added.; PackageReference: J1-0603; Publisher: Altium Limited; PackageDescription: Chip Resistor
footprint J1-0603 (Chip Resistor, Body 1.6x0.8mm, IPC High Density)
footprint 14-1210 (Chip Resistor, Body 3.2x2.5mm, IPC High Density)
footprint 12Z-2010 (Chip Resistor, Body 5.0x2.5mm, IPC High Density)
footprint RESC6332 (Chip Resistor, Body 6.3x3.2mm, IPC High Density)
simulation model RESISTOR (Resistor)
signal-integrity model Res
pins: 1, 2

## Res3_2
designator R?, comment value 100  (hidden comment: Res3)
Resistor; Published: 8-Jun-2000; LatestRevisionDate: 29-May-2009; LatestRevisionNote: IPC-7351 Footprint Added.; PackageReference: J1-0603; Publisher: Altium Limited; PackageDescription: Chip Resistor
footprint J1-0603 (Chip Resistor, Body 1.6x0.8mm, IPC High Density)
footprint 14-1210 (Chip Resistor, Body 3.2x2.5mm, IPC High Density)
footprint 12Z-2010 (Chip Resistor, Body 5.0x2.5mm, IPC High Density)
footprint RESC6332 (Chip Resistor, Body 6.3x3.2mm, IPC High Density)
simulation model RESISTOR (Resistor)
signal-integrity model Res
pins: 1, 2

## Res3_3
designator R?, comment value 10K  (hidden comment: Res3)
Resistor; Published: 8-Jun-2000; LatestRevisionDate: 29-May-2009; LatestRevisionNote: IPC-7351 Footprint Added.; PackageReference: J1-0603; Publisher: Altium Limited; PackageDescription: Chip Resistor
footprint J1-0603 (Chip Resistor, Body 1.6x0.8mm, IPC High Density)
footprint 14-1210 (Chip Resistor, Body 3.2x2.5mm, IPC High Density)
footprint 12Z-2010 (Chip Resistor, Body 5.0x2.5mm, IPC High Density)
footprint RESC6332 (Chip Resistor, Body 6.3x3.2mm, IPC High Density)
simulation model RESISTOR (Resistor)
signal-integrity model Res
pins: 1, 2

## Res3_4
designator R?, comment value 5.6K  (hidden comment: Res3)
Resistor; Published: 8-Jun-2000; LatestRevisionDate: 29-May-2009; LatestRevisionNote: IPC-7351 Footprint Added.; PackageReference: J1-0603; Publisher: Altium Limited; PackageDescription: Chip Resistor
footprint J1-0603 (Chip Resistor, Body 1.6x0.8mm, IPC High Density)
footprint 14-1210 (Chip Resistor, Body 3.2x2.5mm, IPC High Density)
footprint 12Z-2010 (Chip Resistor, Body 5.0x2.5mm, IPC High Density)
footprint RESC6332 (Chip Resistor, Body 6.3x3.2mm, IPC High Density)
simulation model RESISTOR (Resistor)
signal-integrity model Res
pins: 1, 2

## RFM95
designator U?, comment RFM95W-915S2
footprint XCVR_RFM95W-915S2
pins: 1 ANT, 2 GND, 3 DIO3, 4 DIO4, 5 3.3V, 6 DIO0, 7 DIO1, 8 DIO2, 9 GND, 10 MISO, 11 MOSI, 12 SCK, 13 NSS, 14 RST, 15 DIO5, 16 GND

## RPot
designator R?  value 1K  (hidden comment: RPot)
Potentiometer; Sim Note: Enter the Resistance value and the set point into parameter fields.; Set Position: 0.5; Published: 8-Jun-2000; LatestRevisionDate: 17-Jul-2002; LatestRevisionNote: Re-released for DXP Platform.; PackageReference: VR5; Publisher: Altium Limited; PackageDescription: Variable Resistor, Thru-Hole; 3 Leads
footprint VR5 (Thru-Hole; 3 Leads)
simulation model POT (Potentiometer)
pins: 1 TOP, 2 BOT, 3 TAP
1 alternate drawing of the same symbol

## SIM7100-8-1-15-00-A_revA
designator U?
Micro SIM Card Connector - Push-Push Type, 8 Pin, SMT, 1.50mm Profile
footprint SIM7100-8-1-15-00-A_revA (Micro SIM Card Connector - Push-Push Type, 8 Pin, SMT, 1.50mm Profile)
pins: C1 VCC (power), C2 RST (in), C3 CLK (in), C4 RFU1, C5 GND (power), C6 VPP (power), C7 I/O (io), C8 RFU2, CD

## ST3232EBDR
designator CR?
SourceLibrary: StMicro_2011-06-07; Built_By: EMA_UL_Team; Vendor: STMicroelectronics; Value: ST3232EBDR; Manufacturer_Part_Number: ST3232EBDR
footprint SO-16_STM
pins: 1 C1+, 2 V+ (power), 3 C1-, 4 C2+, 5 C2-, 6 V- (power), 7 T2OUT (out), 8 R2IN (in), 9 R2OUT (out), 10 T2IN (in), 11 T1IN (in), 12 R1OUT (out), 13 R1IN (in), 14 T1OUT (out), 15 GND (power), 16 VCC (power)

## SW_CnK-KMR211GLFS-1VA
designator SW?, comment KMR211GLFS
Power ON Switch; Manufacturer Name: C&N; Rating: 1VA; Manufacturer Part No.: KMR211GLFS
footprint T_CnK_KMR211GLFS (Microminiature Tact Switch for SMT)
pins: 1, 2, 3, 4, 5

## T-DiodeInc-DMG1012T
designator T?  Manufacturer Part No.: DMG1012T  (hidden comment: T-DiodeInc-DMG1012T)
N-Channel 20V (D-S)  MOSFET; Manufacturer Name: Diode Inc
footprint T_SOT50P160X80-3N (SOT23, 3-Leads, Body 1.7x1.8mm (max), Pitch 0.50mm, IPC Medium Density)
pins: 1 G, 2 S, 3 D

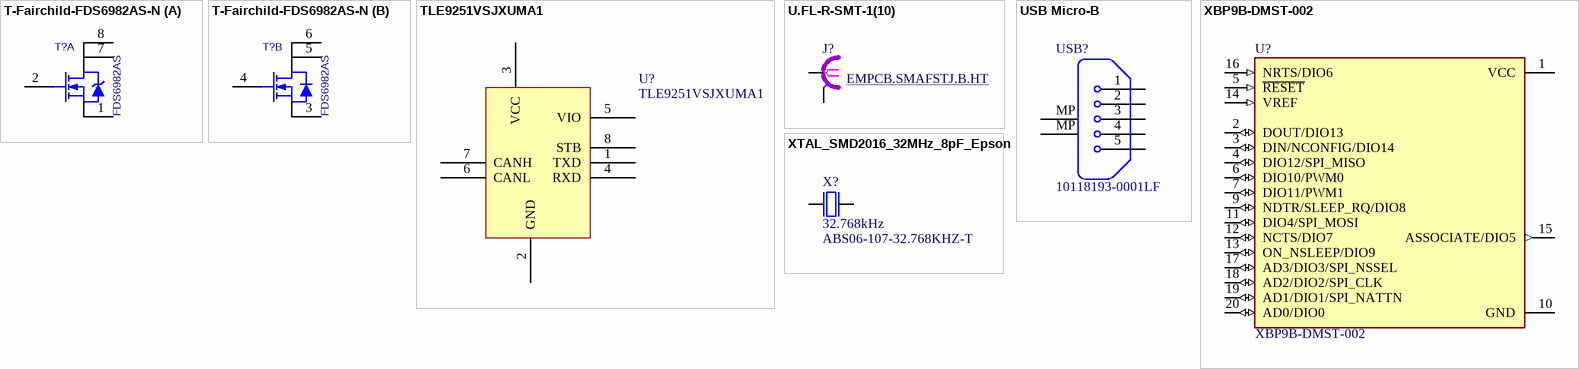
[diagram p4: symbols T-Fairchild-FDS6982AS-N to XTAL_SMD2016_32MHz_8pF_Epson]

## T-Fairchild-FDS6982AS-N
designator T?, comment FDS6982AS
N-Channel PowerTrench SyncFET; Manufacturer Name: Fairchild; Manufacturer Part No.: FDS6982AS
footprint SOIC127P600X173-8N
part A pins: 1 S, 2 G, 7 D, 8 D
part B pins: 3 S, 4 G, 5 D, 6 D

## TLE9251VSJXUMA1
designator U?
footprint SOIC127P602X173-8N (Footprint not found)
pins: 1 TXD, 2 GND, 3 VCC, 4 RXD, 5 VIO, 6 CANL, 7 CANH, 8 STB

## U.FL-R-SMT-1(10)
designator J?, comment EMPCB.SMAFSTJ.B.HT
RECPT ULTRA-MINI COAX SMD
footprint EMPCB.SMAFSTJ.B.HT (SMA Connector Jack, Female Socket 50 Ohm Board Edge, End Launch Solder)
pins: 1 Signal, 2 GND (power)

## USB Micro-B
designator USB?, comment 10118193-0001LF
Value: Micro USB Type B; E14 pn: 2751675; mpn: 10118193-0001LF
footprint 10118193-0001LF (Connector Receptacle USB - micro B 2.0 5 Position Surface Mount, Right Angle, Horizontal)
pins: 1, 2, 3, 4, 5, 6, 6
2 alternate drawings of the same symbol
text: MP

## XBP9B-DMST-002
designator U?
General ISM < 1GHz Transceiver Module 900MHz Antenna Not Included, RP-SMA Through Hole; MF: Digi International; Price: None; Availability: Unavailable; SnapEDA_Link: https://www.snapeda.com/parts/XBP9B-DMST-002/Digi%20International/view-part/1127866/?ref=snap; MP: XBP9B-DMST-002; Value: *; Package: Module Digiboard
footprint DIP2200W51P200L3294H279Q20P
pins: 1 VCC (power), 2 DOUT/DIO13 (io), 3 DIN/NCONFIG/DIO14 (io), 4 DIO12/SPI_MISO (io), 5 ~{RESET} (in), 6 DIO10/PWM0 (io), 7 DIO11/PWM1 (io), 9 NDTR/SLEEP_RQ/DIO8 (io), 10 GND (power), 11 DIO4/SPI_MOSI (io), 12 NCTS/DIO7 (io), 13 ON_NSLEEP/DIO9 (io), 14 VREF (in), 15 ASSOCIATE/DIO5 (out), 16 NRTS/DIO6 (in), 17 AD3/DIO3/SPI_NSSEL (io), 18 AD2/DIO2/SPI_CLK (io), 19 AD1/DIO1/SPI_NATTN (io), 20 AD0/DIO0 (io)

## XTAL_SMD2016_32MHz_8pF_Epson
designator X?, comment 32.768kHz  Manufacturer PN: ABS06-107-32.768KHZ-T
XTAL SMD 2016, 32MHz, Cl=8pF, Tol: ±10ppm, Stab: ±10ppm; Part Number: XTAL_SMD2016_32MHz_12pF; Manufacturer: AVX Corp/Kyocera Corp; Note: XTAL SMD 32.000MHz; Artikkelnr Noca: 22019238; Artikkelnr Simpro: N.A.; Datasheet: http://www.epsondevice.com/docs/qd/en/DownloadServlet?id=ID000449; LatestRevisionDate: 2014-11-27; Pin Count: 4; Publisher: Nordic Semiconductor; Published: 2012-03-09; Value: 32.768kHz; Supplier: Farnell; Supplier part number: 171-2806; 2nd source Supplier: *; 2nd source part number: *; Footprint Doc: XTAL_1612
footprint ABS06 (32.768kHz ±20ppm Crystal 4pF 60 kOhm -40°C ~ 85°C Surface Mount 2-SMD, No Lead)
pins: 1 inp, 2 out